# EAGLE library part ICM-20689 (library accelerometer)
ICM-20689 Datasheet <http://www.invensense.com/wp-content/uploads/2017/08/ICM-20689-v2.2-002.pdf> The ICM-20689 is a 6-axis MotionTracking device that combines a 3-axis gyroscope, 3-axis accelerometer, and a Digital Motion Processor™ (DMP) in a small 4x4x0.9 mm (24- pin QFN) package. Large 4K-byte FIFO to reduce traffic on the serial bus interface, and reduce power consumption by allowing the system processor to burst read sensor data and then go into a low-power mode Gyroscope programmable FSR of ±250dps, ±500dps, ±1000dps and ±2000dps Accelerometer with Programmable FSR of ±2g, ±4g, ±8g and ±16g EIS FSYNC support ICM-20689 includes on-chip 16-bit ADCs, programmable digital filters, an embedded temperature sensor, and programmable interrupts. The device features an operating voltage range down to 1.71 V. Communication ports include I2C and high speed SPI at 8 MHz.
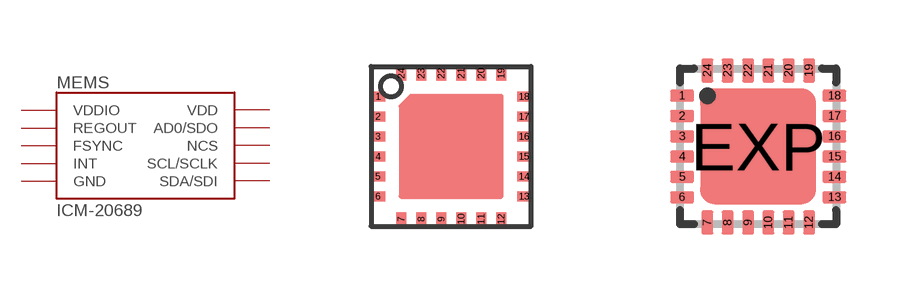
[diagram p1: symbol with the pads of QFN-24; footprints QFN-24, QFN24]

Designator prefix MEMS

## ICM-20689QFN-24  [QFN-24]

## ICM-20689WEB  [QFN24]
8  VDDIO
9  AD0/SDO
10  REGOUT
11  FSYNC
12  INT
13  VDD  pwr
18  GND  pwr
22  NCS
23  SCL/SCLK
24  SDA/SDI

## Footprint QFN-24 (pad centres in mm)
smd 0.35 x 0.25: 1 -1.825,1.25; 2 -1.825,0.75; 3 -1.825,0.25; 4 -1.825,-0.25; 5 -1.825,-0.75; 6 -1.825,-1.25; 13 1.825,-1.25; 14 1.825,-0.75; 15 1.825,-0.25; 16 1.825,0.25; 17 1.825,0.75; 18 1.825,1.25
smd 0.25 x 0.35: 7 -1.25,-1.825; 8 -0.75,-1.825; 9 -0.25,-1.825; 10 0.25,-1.825; 11 0.75,-1.825; 12 1.25,-1.825; 19 1.25,1.825; 20 0.75,1.825; 21 0.25,1.825; 22 -0.25,1.825; 23 -0.75,1.825; 24 -1.25,1.825

## Footprint QFN24 (pad centres in mm)
QFN 4x4 mm Source: http://www.hittite.com/product_info/product_specs/dividersdetectors/hmc394lp4.pdf
smd 0.6 x 0.3: 1 -1.905,1.27; 2 -1.905,0.762; 3 -1.905,0.254; 4 -1.905,-0.254; 5 -1.905,-0.762; 6 -1.905,-1.27; 13 1.905,-1.27; 14 1.905,-0.762; 15 1.905,-0.254; 16 1.905,0.254; 17 1.905,0.762; 18 1.905,1.27
smd 0.3 x 0.6: 7 -1.27,-1.905; 8 -0.762,-1.905; 9 -0.254,-1.905; 10 0.254,-1.905; 11 0.762,-1.905; 12 1.27,-1.905; 19 1.27,1.905; 20 0.762,1.905; 21 0.254,1.905; 22 -0.254,1.905; 23 -0.762,1.905; 24 -1.27,1.905
smd 2.9 x 2.9: EXP 0,0